# Altium schematic symbol library MPZ2012S601AT000.SchLib: 2 symbols
Pins are listed as number, name and electrical type; pins without a type are passive.

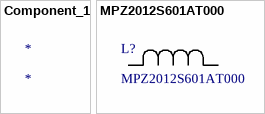
[diagram p0: symbols Component_1 to MPZ2012S601AT000]

## Component_1
designator *

## MPZ2012S601AT000
designator L?
No Description Available; Manufacturer_Name: TDK; Copyright: Copyright (C) 2025 Ultra Librarian. All rights reserved.; Manufacturer_Part_Number: MPZ2012S601AT000
footprint IND_2012_TDK
pins: 1, 2